# EAGLE library part LCDEN (library 円形LCD)
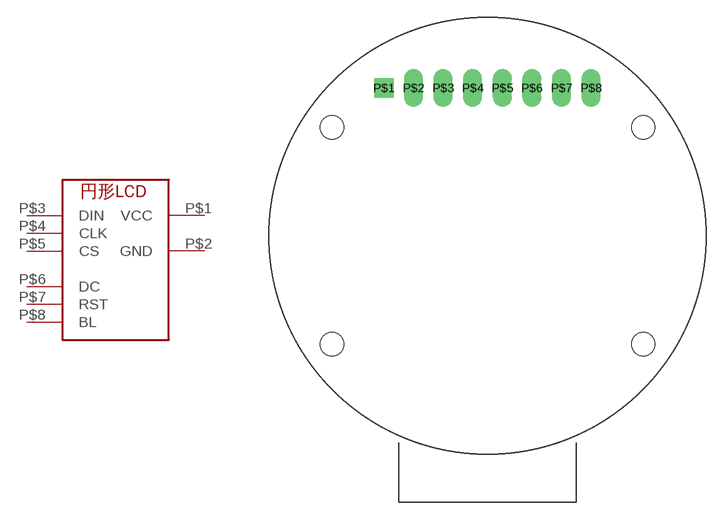
[diagram p0: symbol with the pads of LCD; footprint LCD]

Designator prefix -

## LCDEN  [LCD]
P$1  VCC
P$2  GND
P$3  DIN
P$4  CLK
P$5  CS
P$6  DC
P$7  RST
P$8  BL

## Footprint LCD (pad centres in mm)
drill 1.1 square: P$1 -8.89,12.7
drill 1.1 long: P$2 -6.35,12.7; P$3 -3.81,12.7; P$4 -1.27,12.7; P$5 1.27,12.7; P$6 3.81,12.7; P$7 6.35,12.7; P$8 8.89,12.7
hole 2 at -13.35,9.3
hole 2 at 13.35,9.3
hole 2 at 13.35,-9.3
hole 2 at -13.35,-9.3